# EAGLE library part XBEE_PRO (library RF ZigBee)
XBee , ZigBee transceiver Producted by XBee ; Digi-Key.Co
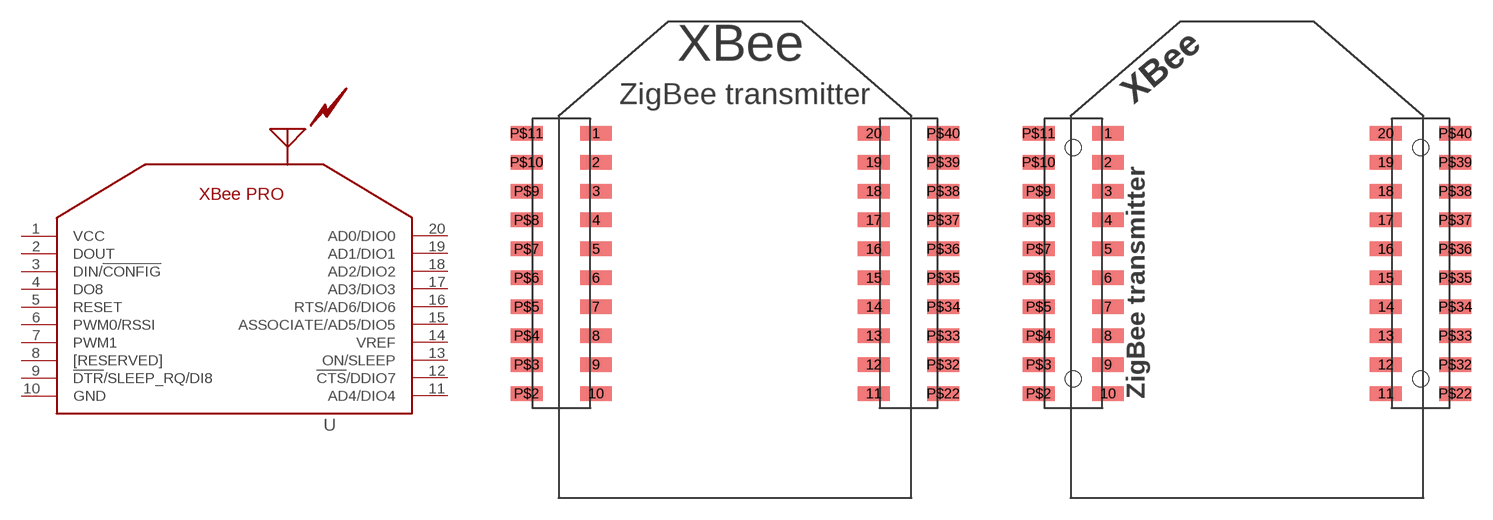
[diagram p0: symbol with the pads of XBEE_ON_A3CON(INSIDE_HOLE); footprints XBEE_ON_A3CON(INSIDE_HOLE), XBEE_ON_A3ACON(INSIDE_HOLE)]

Designator prefix U

## XBEE_PROA3-INSIDE_HOLE  [XBEE_ON_A3CON(INSIDE_HOLE)]
1  VCC
2  DOUT
3  DIN/!CONFIG
4  DO8
5  RESET
6  PWM0/RSSI
7  PWM1
8  [RESERVED]
9  !DTR!/SLEEP_RQ/DI8
10  GND
11  AD4/DIO4
12  !CTS!/DDIO7
13  ON/SLEEP
14  VREF
15  ASSOCIATE/AD5/DIO5
16  RTS/AD6/DIO6
17  AD3/DIO3
18  AD2/DIO2
19  AD1/DIO1
20  AD0/DIO0

## XBEE_PROA3A-INSIDE_HOLE  [XBEE_ON_A3ACON(INSIDE_HOLE)]
Pads as for XBEE_ON_A3CON(INSIDE_HOLE)

## XBEE_PRONPPN101BFLD-RC  [XBEE_ON_NPPN101BFLD-RC]
Pads as for XBEE_ON_A3CON(INSIDE_HOLE)

## XBEE_PROXPPN101BFCN  [XBEE_ON_XPPN101BFCN-RC]
Pads as for XBEE_ON_A3CON(INSIDE_HOLE)

## XBEE_PRONPPN101BFLC  [XBEE_ON_NPPN101BFLC-RC]
Pads as for XBEE_ON_A3CON(INSIDE_HOLE)

## Footprint XBEE_ON_A3CON(INSIDE_HOLE) (pad centres in mm)
XBee Pro on A3 receptacle connector (use inside sockets) ***Attention!!*** connector has not positioning adjustment holes! ****************** Producted by A3A connector ; Hirose.Co (HRS) XBee ; Digi-Key.Co
smd 2.2 x 1: 1 -9.6,18; 2 -9.6,16; 3 -9.6,14; 4 -9.6,12; 5 -9.6,10; 6 -9.6,8; 7 -9.6,6; 8 -9.6,4; 9 -9.6,2; 10 -9.6,0; 11 9.6,0; 12 9.6,2; 13 9.6,4; 14 9.6,6; 15 9.6,8; 16 9.6,10; 17 9.6,12; 18 9.6,14; 19 9.6,16; 20 9.6,18; P$2 -14.4,0; P$3 -14.4,2; P$4 -14.4,4; P$5 -14.4,6; P$6 -14.4,8; P$7 -14.4,10; P$8 -14.4,12; P$9 -14.4,14; P$10 -14.4,16; P$11 -14.4,18; P$22 14.4,0; P$32 14.4,2; P$33 14.4,4; P$34 14.4,6; P$35 14.4,8; P$36 14.4,10; P$37 14.4,12; P$38 14.4,14; P$39 14.4,16; P$40 14.4,18

## Footprint XBEE_ON_A3ACON(INSIDE_HOLE) (pad centres in mm)
XBee Pro on A3A receptacle connector (use inside sockets) ***Attention!!*** connector has 2 holes to position adjustment. ****************** Producted by A3A connector ; Hirose.Co (HRS) XBee ; Digi-Key.Co
smd 2.2 x 1: 1 -9.6,18; 2 -9.6,16; 3 -9.6,14; 4 -9.6,12; 5 -9.6,10; 6 -9.6,8; 7 -9.6,6; 8 -9.6,4; 9 -9.6,2; 10 -9.6,0; 11 9.6,0; 12 9.6,2; 13 9.6,4; 14 9.6,6; 15 9.6,8; 16 9.6,10; 17 9.6,12; 18 9.6,14; 19 9.6,16; 20 9.6,18; P$2 -14.4,0; P$3 -14.4,2; P$4 -14.4,4; P$5 -14.4,6; P$6 -14.4,8; P$7 -14.4,10; P$8 -14.4,12; P$9 -14.4,14; P$10 -14.4,16; P$11 -14.4,18; P$22 14.4,0; P$32 14.4,2; P$33 14.4,4; P$34 14.4,6; P$35 14.4,8; P$36 14.4,10; P$37 14.4,12; P$38 14.4,14; P$39 14.4,16; P$40 14.4,18
hole 1.1 at -12,1
hole 1.1 at -12,17
hole 1.1 at 12,17
hole 1.1 at 12,1

## Footprint XBEE_ON_NPPN101BFLD-RC (pad centres in mm)
XBee Pro on NPPN101BFLD-RC receptacle connector (1*10) Producted by XBee ; Digi-Key.Co Store: NPPN101BFLD-RC connector : Digi-Key.Co http://dkc1.digikey.com/jp/digihome.html
smd 2.29 x 0.89: 1 -12.395,18; 2 -9.605,16; 3 -12.395,14; 4 -9.605,12; 5 -12.395,10; 6 -9.605,8; 7 -12.395,6; 8 -9.605,4; 9 -12.395,2; 10 -9.605,0; 11 12.395,0; 12 9.605,2; 13 12.395,4; 14 9.605,6; 15 12.395,8; 16 9.605,10; 17 12.395,12; 18 9.605,14; 19 12.395,16; 20 9.605,18

## Footprint XBEE_ON_XPPN101BFCN-RC (pad centres in mm)
XBee Pro on NPPN101BFLD-RC receptacle connector (1*10) Producted by XBee ; Digi-Key.Co Store: NPPN101BFLC-RC connector : Digi-Key.Co http://dkc1.digikey.com/jp/digihome.html
drill 0.9: 1 -11,18; 2 -11,16; 3 -11,14; 4 -11,12; 5 -11,10; 6 -11,8; 7 -11,6; 8 -11,4; 9 -11,2; 10 -11,0; 11 11,0; 12 11,2; 13 11,4; 14 11,6; 15 11,8; 16 11,10; 17 11,12; 18 11,14; 19 11,16; 20 11,18

## Footprint XBEE_ON_NPPN101BFLC-RC (pad centres in mm)
XBee Pro on NPPN101BFLC-RC receptacle connector (1*10) Producted by XBee ; Digi-Key.Co Store: NPPN101BFLC-RC connector : Digi-Key.Co http://dkc1.digikey.com/jp/digihome.html
smd 2.29 x 0.89: 1 -9.605,18; 2 -12.395,16; 3 -9.605,14; 4 -12.395,12; 5 -9.605,10; 6 -12.395,8; 7 -9.605,6; 8 -12.395,4; 9 -9.605,2; 10 -12.395,0; 11 9.605,0; 12 12.395,2; 13 9.605,4; 14 12.395,6; 15 9.605,8; 16 12.395,10; 17 9.605,12; 18 12.395,14; 19 9.605,16; 20 12.395,18